# Altium footprint library Project_Libary.PcbLib: 9 footprints
Each footprint in its own frame and in the unit in brackets; x right, y up, seen from the top. Pads: shape width x height; smd on the part's side, far side on the other; paste and mask are expansions set on the pad; w line width, h text height; cw(c..) or ccw(c..) is an arc to the next point about the centre after c.
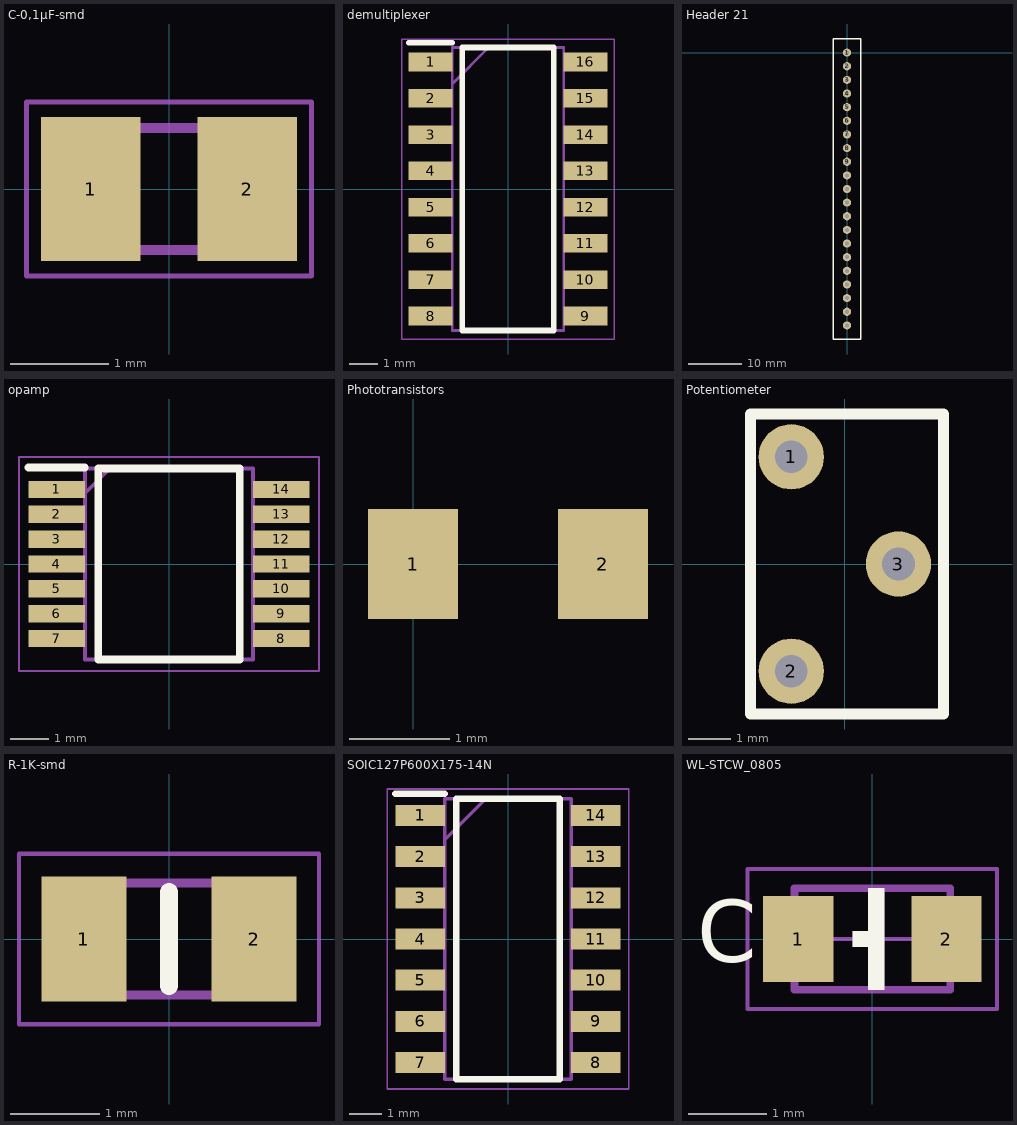
[diagram p0: the footprints below, top view; thin cyan lines are the x and y axes]

## C-0,1µF-smd [mm]
pads (2):
  rect 1.02x1.47 smd: 1(-0.8,0) 2(0.8,0)
Mechanical 13:
  lines w0.1: -1,-0.625 1,-0.625 1,0.625 -1,0.625 -1,-0.625
Mechanical 15:
  lines w0.05: -1.46,-0.89 1.46,-0.89 1.46,0.89 -1.46,0.89 -1.46,-0.89
3D body "C0805C104K5RAC7411.stp": height 0.88, standoff 0, extent -1,-0.625 1,0.625

## demultiplexer [mm]
pads (16):
  rect 1.525x0.65 smd: 1(-2.712,4.445) 2(-2.712,3.175) 3(-2.712,1.905) 4(-2.712,0.635) 5(-2.712,-0.635) 6(-2.712,-1.905) 7(-2.712,-3.175) 8(-2.712,-4.445) 9(2.712,-4.445) 10(2.712,-3.175) 11(2.712,-1.905) 12(2.712,-0.635) 13(2.712,0.635) 14(2.712,1.905) 15(2.712,3.175) 16(2.712,4.445)
Top Overlay:
  lines w0.2: -3.475,5.12 -1.95,5.12 ; -1.6,-4.95 -1.6,4.95 1.6,4.95 1.6,-4.95 -1.6,-4.95
Mechanical 13:
  lines w0.1: -1.95,3.68 -0.68,4.95 ; -1.95,-4.95 -1.95,4.95 1.95,4.95 1.95,-4.95 -1.95,-4.95
Mechanical 15:
  lines w0.05: -3.725,-5.25 -3.725,5.25 3.725,5.25 3.725,-5.25 -3.725,-5.25
3D body "CD74HC237M.stp": height 1.75, standoff 0, extent -3.013,-4.94 3.013,4.96

## Header 21 [mil]
pads (21):
  round 60 hole 30: 1(0,0) 2(0,-100) 3(0,-200) 4(0,-300) 5(0,-400) 6(0,-500) 7(0,-600) 8(0,-700) 9(0,-800) 10(0,-900) 11(0,-1000) 12(0,-1100) 13(0,-1200) 14(0,-1300) 15(0,-1400) 16(0,-1500) 17(0,-1600) 18(0,-1700) 19(0,-1800) 20(0,-1900) 21(0,-2000)
Top Overlay:
  lines w10: -100,-2100 100,-2100 100,100 -100,100 -100,-2100

## opamp [mm]
pads (14):
  rect 1.475x0.45 smd: 1(-2.938,1.95) 2(-2.938,1.3) 3(-2.938,0.65) 4(-2.938,0) 5(-2.938,-0.65) 6(-2.938,-1.3) 7(-2.938,-1.95) 8(2.938,-1.95) 9(2.938,-1.3) 10(2.938,-0.65) 11(2.938,0) 12(2.938,0.65) 13(2.938,1.3) 14(2.938,1.95)
Top Overlay:
  lines w0.2: -3.675,2.525 -2.2,2.525 ; -1.85,-2.5 -1.85,2.5 1.85,2.5 1.85,-2.5 -1.85,-2.5
Mechanical 13:
  lines w0.1: -2.2,1.85 -1.55,2.5 ; -2.2,-2.5 -2.2,2.5 2.2,2.5 2.2,-2.5 -2.2,-2.5
Mechanical 15:
  lines w0.05: -3.925,-2.8 -3.925,2.8 3.925,2.8 3.925,-2.8 -3.925,-2.8
3D body "LM2902MTX_NOPB.stp": height 1.13, standoff 0, extent -3.2,-2.5 3.2,2.5

## Phototransistors [mm]
pads (2):
  rect 0.9x1.1 smd: 1(0,0) 2(1.9,0)

## Potentiometer [mil] "PT10LH01-104A2020-S"
pads (3):
  round 60 hole 30: 1(-49.21,98.43) 2(-49.21,-98.43) 3(49.21,0)
Top Overlay:
  lines w10: -86.61,-137.8 90.55,-137.8 90.55,137.8 -86.61,137.8 -86.61,-137.8

## R-1K-smd [mm]
pads (2):
  rect 0.95x1.4 smd: 1(-0.95,0) 2(0.95,0)
Top Overlay:
  lines w0.2: 0,-0.525 0,0.525
Mechanical 13:
  lines w0.1: -1,-0.625 -1,0.625 1,0.625 1,-0.625 -1,-0.625
Mechanical 15:
  lines w0.05: -1.675,-0.95 -1.675,0.95 1.675,0.95 1.675,-0.95 -1.675,-0.95
3D body "RC0805FR-131KL.stp": height 0.6, standoff 0, extent -1,-0.625 1,0.625

## SOIC127P600X175-14N [mm]
pads (14):
  rect 1.525x0.65 smd: 1(-2.712,3.81) 2(-2.712,2.54) 3(-2.712,1.27) 4(-2.712,0) 5(-2.712,-1.27) 6(-2.712,-2.54) 7(-2.712,-3.81) 8(2.712,-3.81) 9(2.712,-2.54) 10(2.712,-1.27) 11(2.712,0) 12(2.712,1.27) 13(2.712,2.54) 14(2.712,3.81)
Top Overlay:
  lines w0.2: -3.475,4.485 -1.95,4.485 ; -1.6,-4.325 -1.6,4.325 1.6,4.325 1.6,-4.325 -1.6,-4.325
Mechanical 13:
  lines w0.1: -1.95,3.055 -0.68,4.325 ; -1.95,-4.325 -1.95,4.325 1.95,4.325 1.95,-4.325 -1.95,-4.325
Mechanical 15:
  lines w0.05: -3.725,-4.625 -3.725,4.625 3.725,4.625 3.725,-4.625 -3.725,-4.625
3D body "LM2902LVIDR.stp": height 1.75, standoff 0, extent -3.013,-4.315 3.013,4.335

## WL-STCW_0805 [mm] "SMT Phototransistor Chip Waterclear, body 2x1.3mm"
height 0.8
pads (2):
  rect 0.9x1.1 smd: 1(-0.95,0) 2(0.95,0)
Top Overlay:
  region: 0.15,0.65 0.15,-0.65 -0.05,-0.65 -0.05,-0.1 -0.25,-0.1 -0.25,0.1 -0.05,0.1 -0.05,0.65
  text "C" at -2.25,-0.3 h0.8
Mechanical 13:
  region: 0.15,0.65 0.15,-0.65 -0.05,-0.65 -0.05,-0.1 -0.25,-0.1 -0.25,0.1 -0.05,0.1 -0.05,0.65
  lines w0.1: -1,-0.65 -1,0.65 1,0.65 1,-0.65 -1,-0.65
Mechanical 15:
  lines w0.05: -0.5,0 0.5,0 ; 0,-0.5 0,0.5 ; -1.6,-0.9 1.6,-0.9 1.6,0.9 -1.6,0.9 -1.6,-0.9
3D body "1540801NBA300_HV.stp": height 0.8, standoff 0, extent -1,-0.65 1,0.65